# EAGLE library part QDET1 (library my_relai)
Quantronics X-Ray Detector
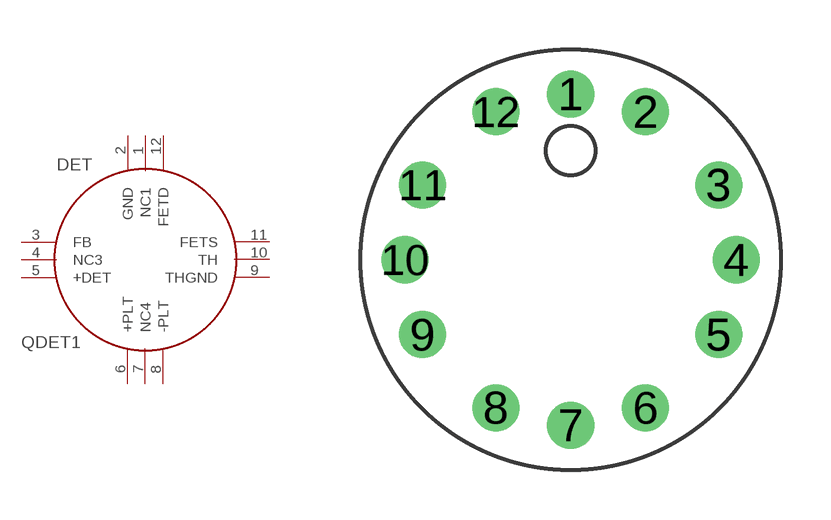
[diagram p17: symbol with the pads of QDET; footprint QDET]

Designator prefix DET

## QDET1P12  [QDET]
1  NC1  nc
2  GND  pwr
3  FB
4  NC3  nc
5  +DET  pwr
6  +PLT  pwr
7  NC4  nc
8  -PLT  pwr
9  THGND
10  TH
11  FETS
12  FETD

## Footprint QDET (pad centres in mm)
Quantronics Detector Pads
drill 0.61 pad 1.422: 1 0,5.004; 2 2.261,4.47; 3 4.47,2.261; 4 5.004,0; 5 4.47,-2.261; 6 2.261,-4.47; 7 0,-5.004; 8 -2.261,-4.47; 9 -4.47,-2.261; 10 -5.004,0; 11 -4.47,2.261; 12 -2.261,4.47